# EAGLE library part 615008138021 (library Wurth_Connectors_WR-MJ)
WR-MJ Modular Jack Vertical Plastic 8P8C General Information Operating Temperature -40 up to +85 °C Electrical Properties Working Voltage 120 V (AC) Withstanding Voltage 1000 V (AC) Contact Resistance 20 mΩ RISO 500 MΩ Material Properties Insulator Material PBT Insulator Flammability Rating UL94 V-0 Insulator Color Black Contact Material Copper Alloy Contact Plating Selective Gold Contact Type Stamped Packaging Properties Packaging Tray <https://www.we-online.com/components/media/o33124v209%20Family_WR-MJ_615008138021.jpg> Details see: www.we-online.com/en/components/products/MJ_VERTICAL_PLASTIC_8P8C <www.we-online.com/catalog/MJ_VERTICAL_PLASTIC_8P8C/?utm_source=eagle_model&utm_medium=description_link&utm_campaign=eisos_eagle> Updated by Ella Wu 2023-11-13 2023 (C) Würth Elektronik
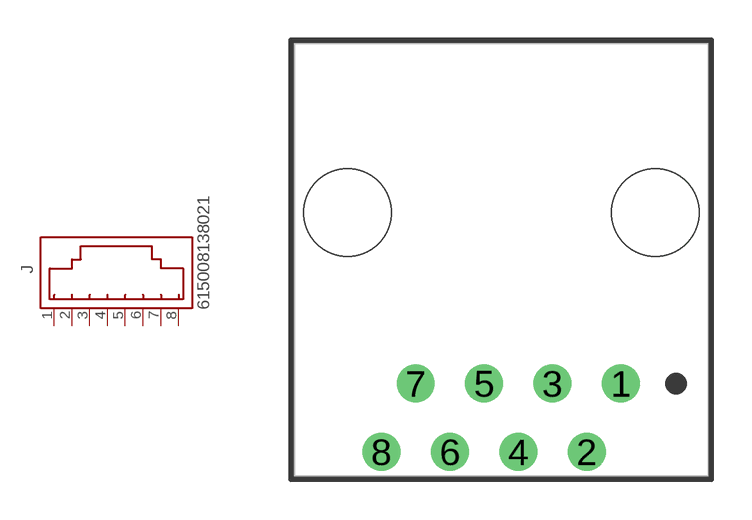
[diagram p72: symbol with the pads of 615008138021; footprint 615008138021]

Designator prefix J

## 615008138021 (DATASHEET-URL: https://www.we-online.com/redexpert/spec/615008138021?ae; MOUNT: THT; PART-NUMBER: 615008138021; TYPE: Vertical; VALUE: 615008138021; XPXC: 8P8C)  [615008138021]
1  8  pas
2  7  pas
3  6  pas
4  5  pas
5  4  pas
6  3  pas
7  2  pas
8  1  pas

## Footprint 615008138021 (pad centres in mm)
WR-MJ Modular Jack Vertical Plastic 8P8C THT, 8 pins
drill 0.9: 1 4.445,-6.35; 2 3.175,-8.89; 3 1.905,-6.35; 4 0.635,-8.89; 5 -0.635,-6.35; 6 -1.905,-8.89; 7 -3.175,-6.35; 8 -4.445,-8.89
hole 3.25 at 5.715,0
hole 3.25 at -5.715,0